# Altium schematic symbol library PA2748NL.SchLib: 1 symbol
Pins are listed as number, name and electrical type; pins without a type are passive.

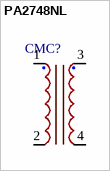
[diagram p0: symbol PA2748NL]

## PA2748NL
designator CMC?
/ CHOKE COMMON MODE 1125UH 1.8A SMD
footprint DFN838P1270X560-4N (DFN, 4-Leads, Body 13.20x12.70mm, Pitch 8.38mm, IPC Medium Density)
pins: 1, 2, 3, 4